# EAGLE library part MICROSD-HOLDER (library gfe-hand-made)
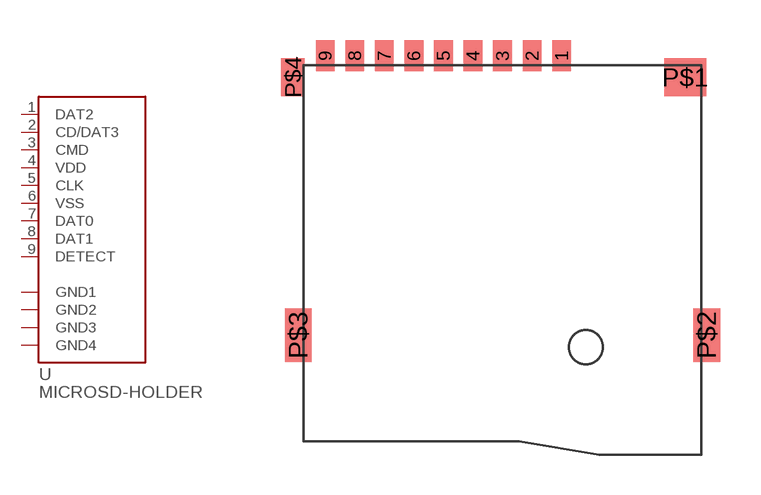
[diagram p3: symbol with the pads of MICROSD-HOLDER-ALIEX; footprint MICROSD-HOLDER-ALIEX]

Designator prefix -

## MICROSD-HOLDER  [MICROSD-HOLDER-ALIEX]
1  DAT2
2  CD/DAT3
3  CMD
4  VDD
5  CLK
6  VSS
7  DAT0
8  DAT1
9  DETECT
P$1  GND1
P$2  GND2
P$3  GND3
P$4  GND4

## Footprint MICROSD-HOLDER-ALIEX (pad centres in mm)
https://www.aliexpress.com/item/20pcs-TF-since-bomb-type-connector-seat-Micro-SD-Outside-welding-SMD-TF-card-seat/32796198931.html?spm=a2g0s.9042311.0.0.07utC Micro SD Card holder
smd 0.7 x 1.15: 1 2.2,7.6; 2 1.1,7.6; 3 0,7.6; 4 -1.1,7.6; 5 -2.2,7.6; 6 -3.3,7.6; 7 -4.4,7.6; 8 -5.5,7.6; 9 -6.6,7.6
smd 1.55 x 1.4: P$1 6.8,6.8
smd 1 x 2: P$2 7.6,-2.8; P$3 -7.6,-2.8
smd 0.88 x 1.4: P$4 -7.8,6.8